# Altium integrated library TSo2-66-170-BK.IntLib: 1 symbol
Pins are listed as number, name and electrical type; pins without a type are passive.

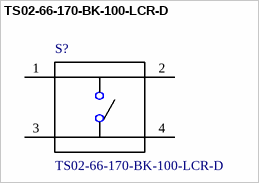
[diagram p0: symbol TS02-66-170-BK-100-LCR-D]

## TS02-66-170-BK-100-LCR-D
designator S?
SnapEDA_Link: https://www.snapeda.com/parts/TS02-66-170-BK-100-LCR-D/Same+Sky/view-part/?ref=snap; Check_prices: https://www.snapeda.com/parts/TS02-66-170-BK-100-LCR-D/Same+Sky/view-part/?ref=eda; Value: *
footprint *SW_TS02-66-170-BK-100-LCR-D
pins: 1, 2, 3, 4